# EAGLE library part 634106149621 (library WR-MJ)
WR-MJ Cat 3 Modular Jacks – SMT Characteristics Shieldingless and Shielded with EMI-Spring option Optional LEDs in various sequences Vertical and Horizontal orientation Tape & Reel packaging for pick-and-place assembly Properties PoE++ Compatible up to 100W (IEEE 802.3bt) UL and cULus-Certified UL94-V0 reflow-compatible insulator material Ethernet Category 3 – Category 5 under conditions Applications Networks Internet of Things Smart Buildings <https://www.we-online.com/components/media/o60696v209%20Multi-WR-MJSM-634008149821.jpg> Details see: www.we-online.com/en/components/products/WR_MJ_MODULAR_JACKS_SMT <www.we-online.com/catalog/WR_MJ_MODULAR_JACKS_SMT/?utm_source=eagle_model&utm_medium=description_link&utm_campaign=eisos_eagle> Updated by Yingchun Shan 2020-01-03 2020(C) Würth Elektronik
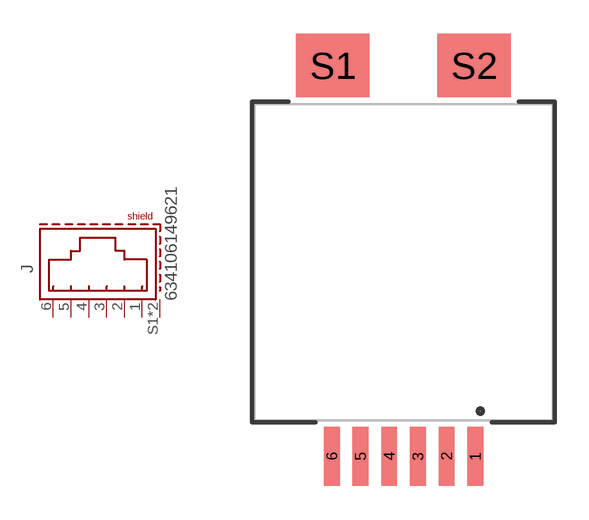
[diagram p61: symbol with the pads of 634106149621; footprint 634106149621]

Designator prefix J

## 634106149621 (DATASHEET-URL: https://www.we-online.com/redexpert/spec/634106149621?ae; EMI: No; LED: /; MOUNT: SMT; PART-NUMBER: 634106149621; SIZE: Vertical; VALUE: 634106149621; XPXC: 6P6C)  [634106149621]
1  1  pas
2  2  pas
3  3  pas
4  4  pas
5  5  pas
6  6  pas
S1  SHIELD  pas
S2  SHIELD  pas

## Footprint 634106149621 (pad centres in mm)
WR-MJ Modular Jack SMT Vertical Plastic 6P6C Top Entry
smd 0.7 x 2.6: 1 3.175,-8.6; 2 1.905,-8.6; 3 0.635,-8.6; 4 -0.635,-8.6; 5 -1.905,-8.6; 6 -3.175,-8.6
smd 3.25 x 2.8: S1 -3.125,8.7; S2 3.125,8.7